# EAGLE library part ZXGD3001E6 (library ICs)
9A(peak) Gate driver in SOT23-6
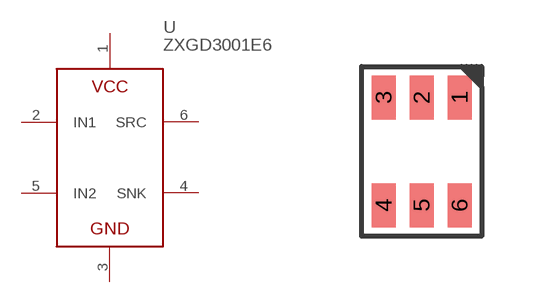
[diagram p62: symbol with the pads of SOT23-6; footprint SOT23-6]

Designator prefix U

## ZXGD3001E6 (FARNELL: 1549138; PRICE_PER: 0.2985; VALUE: ZXGD3001E6TA)  [SOT23-6]
1  VCC
2  IN1
3  GND
4  SNK
5  IN2
6  SRC

## Footprint SOT23-6 (pad centres in mm)
smd 0.6 x 1.1: 1 0.95,1.35; 2 0,1.35; 3 -0.95,1.35; 4 -0.95,-1.35; 5 0,-1.35; 6 0.95,-1.35